# Altium footprint library MyLibrary.PcbLib: 365 footprints (part 11 of 23)
Each footprint in its own frame and in the unit in brackets; x right, y up, seen from the top. Pads: shape width x height; smd on the part's side, far side on the other; paste and mask are expansions set on the pad; w line width, h text height; cw(c..) or ccw(c..) is an arc to the next point about the centre after c.
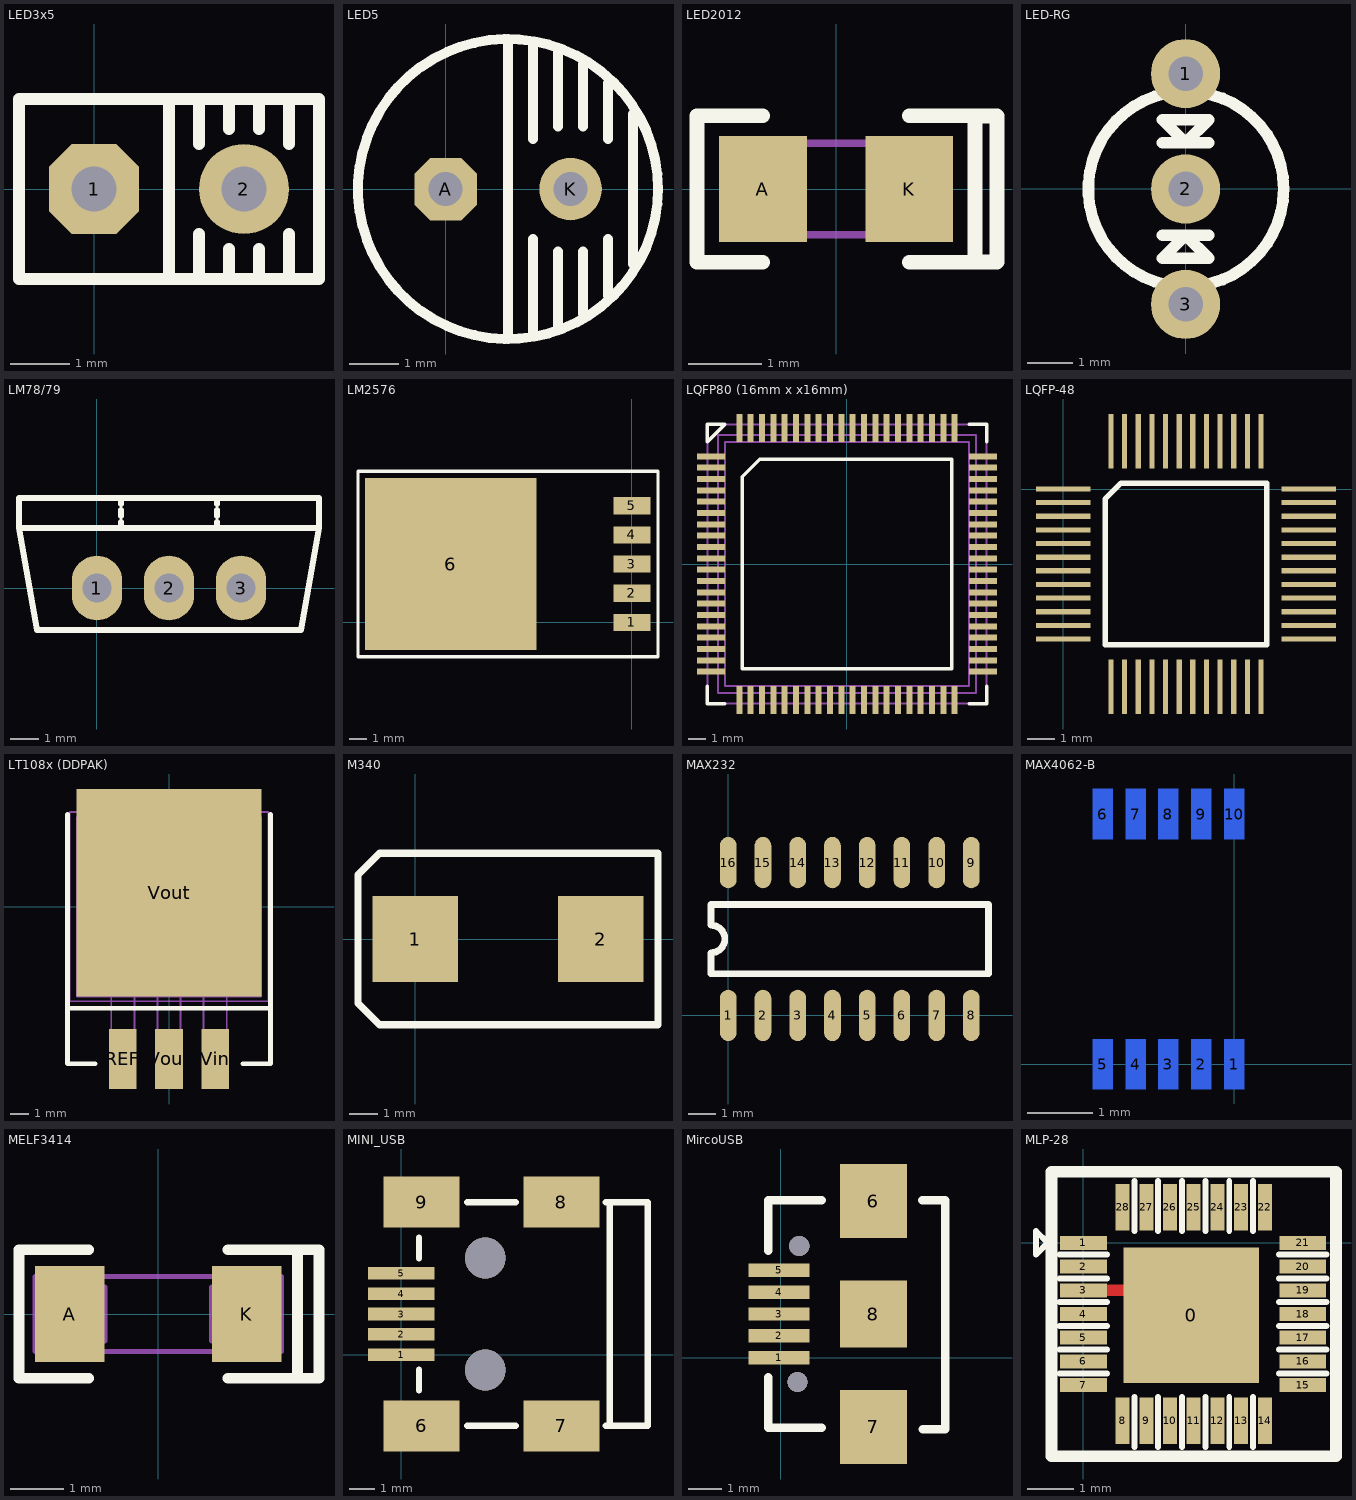
[diagram p10: the footprints below, top view; thin cyan lines are the x and y axes]

## LED3x5 [mil]
pads (2):
  oct 60x60 hole 30: 1(0,0)
  round 60 hole 30: 2(100,0)
Top Overlay:
  lines w8: 50,-60 50,60 ; 70,-60 70,-30 ; 70,30 70,60 ; 90,-60 90,-40 ; 90,40 90,60 ; 110,-60 110,-40 ; 110,40 110,60 ; 130,-60 130,-30 ; 130,30 130,60 ; -50,-60 150,-60 150,60 -50,60 -50,0 -50,-60

## LED5 [mm]
pads (2):
  oct 1.27x1.27 hole 0.7: A(0,0)
  round 1.27 hole 0.7: K(2.54,0)
Top Overlay:
  circle w0.203: c1.27,0 r3.048
  lines w0.203: 1.27,-3.048 1.27,3.048 ; 1.778,-2.921 1.778,-1.016 ; 1.778,1.016 1.778,2.921 ; 2.286,-2.794 2.286,-1.27 ; 2.286,1.27 2.286,2.794 ; 2.794,-2.54 2.794,-1.27 ; 2.794,1.27 2.794,2.54 ; 3.302,-2.159 3.302,-1.016 ; 3.302,1.016 3.302,2.159 ; 3.81,-1.524 3.81,1.524

## LED2012 [mm]
pads (2):
  rect 1.2x1.45 smd: A(-1,0) K(1,0)
Top Overlay:
  lines w0.2: -1,-1 -1.9,-1 -1.9,1 -1,1 ; 1,-1 1.9,-1 1.9,1 1,1
  lines w0.203: 1.9,-1 2.2,-1 2.2,1 1.9,1
Mechanical 1:
  lines w0.1: -0.6,-0.625 -0.6,0.625 ; 0.6,-0.625 0.6,0.625 ; -1,-0.625 1,-0.625 1,0.625 -1,0.625 -1,-0.625

## LED-RG [mil]
pads (3):
  round 60 hole 30: 1(0,100) 2(0,0) 3(0,-100)
Top Overlay:
  circle w10: c0.35,0 r84.65
  lines w10: -20,-40 20,-40 ; -20,40 20,40 ; -20,-60 20,-60 0,-40 -20,-60 ; -20,60 0,40 20,60 -20,60

## LM78/79 [mil]
pads (3):
  oval 70x90 hole 40: 1(0,0) 2(100,0) 3(200,0)
Top Overlay:
  lines w7.87: 33.33,83.33 33.33,91.67 ; 33.33,100 33.33,108.33 ; 33.33,116.67 33.33,125 ; 166.67,83.33 166.67,91.67 ; 166.67,100 166.67,108.33 ; 166.67,116.67 166.67,125 ; -108.33,83.33 -108.33,125 308.33,125 308.33,83.33 ; -108.33,83.33 -83.33,-58.33 283.33,-58.33 308.33,83.33 ; -108.33,83.33 308.33,83.33

## LM2576 [mm]
pads (6):
  rect 2.16x1 smd: 1(0.003,-0.02) 2(0.003,1.68) 3(0.003,3.38) 4(0.003,5.08) 5(0.003,6.78)
  rect 10x10 smd: 6(-10.547,3.38)
Top Overlay:
  lines w0.2: -5.601,-2.016 -15.951,-2.016 -15.951,8.784 -5.541,8.784
  lines w0.203: -5.601,-2.016 1.524,-2.016 1.524,8.784 -5.541,8.784

## LQFP80 (16mm x x16mm) [mm]
pads (80):
  rect 1.6x0.34 smd: 1(-7.8,6.175) 2(-7.8,5.525) 3(-7.8,4.875) 4(-7.8,4.225) 5(-7.8,3.575) 6(-7.8,2.925) 7(-7.8,2.275) 8(-7.8,1.625) 9(-7.8,0.975) 10(-7.8,0.325) 11(-7.8,-0.325) 12(-7.8,-0.975) 13(-7.8,-1.625) 14(-7.8,-2.275) 15(-7.8,-2.925) 16(-7.8,-3.575) 17(-7.8,-4.225) 18(-7.8,-4.875) 19(-7.8,-5.525) 20(-7.8,-6.175) 41(7.8,-6.175) 42(7.8,-5.525) 43(7.8,-4.875) 44(7.8,-4.225) 45(7.8,-3.575) 46(7.8,-2.925) 47(7.8,-2.275) 48(7.8,-1.625) 49(7.8,-0.975) 50(7.8,-0.325) 51(7.8,0.325) 52(7.8,0.975) 53(7.8,1.625) 54(7.8,2.275) 55(7.8,2.925) 56(7.8,3.575) 57(7.8,4.225) 58(7.8,4.875) 59(7.8,5.525) 60(7.8,6.175)
  rect 0.34x1.6 smd: 21(-6.175,-7.8) 22(-5.525,-7.8) 23(-4.875,-7.8) 24(-4.225,-7.8) 25(-3.575,-7.8) 26(-2.925,-7.8) 27(-2.275,-7.8) 28(-1.625,-7.8) 29(-0.975,-7.8) 30(-0.325,-7.8) 31(0.325,-7.8) 32(0.975,-7.8) 33(1.625,-7.8) 34(2.275,-7.8) 35(2.925,-7.8) 36(3.575,-7.8) 37(4.225,-7.8) 38(4.875,-7.8) 39(5.525,-7.8) 40(6.175,-7.8) 61(6.175,7.8) 62(5.525,7.8) 63(4.875,7.8) 64(4.225,7.8) 65(3.575,7.8) 66(2.925,7.8) 67(2.275,7.8) 68(1.625,7.8) 69(0.975,7.8) 70(0.325,7.8) 71(-0.325,7.8) 72(-0.975,7.8) 73(-1.625,7.8) 74(-2.275,7.8) 75(-2.925,7.8) 76(-3.575,7.8) 77(-4.225,7.8) 78(-4.875,7.8) 79(-5.525,7.8) 80(-6.175,7.8)
Top Overlay:
  lines w0.2: -8,-7 -8,-8 -7,-8 ; 7,-8 8,-8 8,-7 ; 7,8 8,8 8,7 ; -8,7 -7,8 -8,8 -8,7
  lines w0.203: -6,-6 6,-6 6,6 -5,6 -6,5 -6,-6
Mechanical 1:
  lines w0.1: -8,-8 -8,8 8,8 8,-8 -8,-8 ; -7.4,-7.4 -7.4,7.4 7.4,7.4 7.4,-7.4 -7.4,-7.4 ; -7,-7 -7,7 7,7 7,-7 -7,-7

## LQFP-48 [mm]
pads (48):
  rect 2x0.19 smd: 1(0,0) 2(0,-0.5) 3(0,-1) 4(0,-1.5) 5(0,-2) 6(0,-2.5) 7(0,-3) 8(0,-3.5) 9(0,-4) 10(0,-4.5) 11(0,-5) 12(0,-5.5) 25(9,-5.5) 26(9,-5) 27(9,-4.5) 28(9,-4) 29(9,-3.5) 30(9,-3) 31(9,-2.5) 32(9,-2) 33(9,-1.5) 34(9,-1) 35(9,-0.5) 36(9,0)
  rect 0.19x2 smd: 13(1.75,-7.25) 14(2.25,-7.25) 15(2.75,-7.25) 16(3.25,-7.25) 17(3.75,-7.25) 18(4.25,-7.25) 19(4.75,-7.25) 20(5.25,-7.25) 21(5.75,-7.25) 22(6.25,-7.25) 23(6.75,-7.25) 24(7.25,-7.25) 37(7.25,1.75) 38(6.75,1.75) 39(6.25,1.75) 40(5.75,1.75) 41(5.25,1.75) 42(4.75,1.75) 43(4.25,1.75) 44(3.75,1.75) 45(3.25,1.75) 46(2.75,1.75) 47(2.25,1.75) 48(1.75,1.75)
Top Overlay:
  lines w0.2: 1.535,-5.715 7.465,-5.715 7.465,0.215 2.12,0.215 1.535,-0.37 1.535,-5.715

## LT108x (DDPAK) [mil]
pads (4):
  rect 60x130 smd: REF(-100,-330) Vin(100,-330) Vout(0,-330)
  rect 400x450 smd: Vout(0,30)
Top Overlay:
  lines w10: -220,200 -220,-220 ; -160,-340 -220,-340 -220,-220 ; 160,-340 220,-340 220,-220 ; 220,200 220,-220 ; -220,-220 220,-220
Mechanical 2:
  lines w4: -200,135 200,135 ; -125,-195 -125,-335 -75,-335 -75,-195 ; -100,135 -100,-115 100,-115 100,135 ; -25,-195 -25,-335 25,-335 25,-195 ; 75,-195 75,-335 125,-335 125,-195 ; -200,-195 200,-195 200,195 -200,195 -200,-195
Mechanical 3:
  rectangle: -120,-370 -80,-285
  rectangle: 80,-370 120,-285
  rectangle: -20,-370 20,-285
  lines w4: -215,-205 215,-205 215,205 -215,205 -215,-205

## M340 [mil]
pads (2):
  rect 120x120 smd: 1(0,0) 2(260,0)
Top Overlay:
  lines w10: -80,-90 -80,90 -50,120 -30,120 340,120 340,-120 -30,-120 -50,-120 -80,-90

## MAX232 [mil]
pads (16):
  oval 24x74 smd: 1(0,0) 2(50,0) 3(100,0) 4(150,0) 5(200,0) 6(250,0) 7(300,0) 8(350,0) 9(350,220) 10(300,220) 11(250,220) 12(200,220) 13(150,220) 14(100,220) 15(50,220) 16(0,220)
Top Overlay:
  lines w10: -25,60 375,60 375,160 -25,160 -25,130 cw(c-25,110) -25,90 -25,60

## MAX4062-B [mil]
pads (10):
  rect 12x30 smd far side: 1(0,0) 2(-19.7,0) 3(-39.4,0) 4(-59.1,0) 5(-78.8,0) 6(-78.8,150) 7(-59.1,150) 8(-39.4,150) 9(-19.7,150) 10(0,150)
Bottom Overlay:
  lines w10: -98.8,30 21.2,30 21.2,55 cw(c21.2,75) 21.2,95 21.2,120 -98.8,120 -98.8,30

## MELF3414 [mm]
pads (2):
  rect 1.3x1.8 smd: A(-1.65,0) K(1.65,0)
Top Overlay:
  lines w0.2: -1.3,-1.2 -2.6,-1.2 -2.6,1.2 -1.3,1.2 ; 1.3,-1.2 2.6,-1.2 ; 1.3,1.2 2.6,1.2 ; 2.6,-1.2 2.6,1.2 ; 2.6,-1.2 3,-1.2 3,1.2 2.6,1.2
Mechanical 1:
  lines w0.1: -2.3,-0.7 -2.3,0.7 ; -1.3,-0.7 -1.3,0.7 ; -1,-0.5 -1,0.5 ; 1,-0.5 1,0.5 ; 1.3,-0.7 1.3,0.7 ; 2.3,-0.7 2.3,0.7 ; -1.7,-0.7 1.7,-0.7 1.7,0.7 -1.7,0.7 -1.7,-0.7

## MINI_USB [mm]
pads (9):
  rect 2.6x0.5 smd: 1(0,0) 2(0,0.8) 3(0,1.6) 4(0,2.4) 5(0,3.2)
  rect 3x2 smd: 6(0.8,-2.8) 7(6.3,-2.8) 8(6.3,6) 9(0.8,6)
via 3.3,3.8 diameter 1.6 hole 1.6
via 3.3,-0.6 diameter 1.6 hole 1.6
Top Overlay:
  lines w0.254: 0.7,-1.4 0.7,-0.6 ; 0.7,3.8 0.7,4.6 ; 2.6,-2.8 4.5,-2.8 ; 2.6,6 4.5,6 ; 8.05,-2.8 9.7,-2.8 9.7,6 8.05,6 ; 8.2,-2.8 8.2,6

## MircoUSB [mm]
pads (8):
  rect 1.8x0.4 smd: 1(-0.05,0) 2(-0.05,0.65) 3(-0.05,1.3) 4(-0.05,1.95) 5(-0.05,2.6)
  rect 2x2.2 smd: 6(2.75,4.65) 7(2.75,-2.05)
  rect 2x2 smd: 8(2.75,1.3)
via 0.5,-0.72 diameter 0.6 hole 0.6
via 0.55,3.32 diameter 0.6 hole 0.6
Top Overlay:
  lines w0.254: -0.37,-2.07 -0.37,-0.58 ; -0.37,3.18 -0.37,4.67 1.22,4.67 ; -0.36,-2.07 1.22,-2.07 ; 4.2,4.67 4.88,4.67 4.88,-2.12 4.21,-2.12

## MLP-28 [mm]
pads (29):
  rect 2.9x2.9 smd: 0(2.311,-1.549)
  rect 1x0.3 smd: 1(0,0) 2(0,-0.508) 3(0,-1.016) 4(0,-1.524) 5(0,-2.032) 6(0,-2.54) 7(0,-3.048) 15(4.699,-3.048) 16(4.699,-2.54) 17(4.699,-2.032) 18(4.699,-1.524) 19(4.699,-1.016) 20(4.699,-0.508) 21(4.699,0)
  rect 0.3x1 smd: 8(0.838,-3.81) 9(1.346,-3.81) 10(1.854,-3.81) 11(2.362,-3.81) 12(2.87,-3.81) 13(3.378,-3.81) 14(3.886,-3.81) 22(3.886,0.762) 23(3.378,0.762) 24(2.87,0.762) 25(2.362,0.762) 26(1.854,0.762) 27(1.346,0.762) 28(0.838,0.762)
Top Layer:
  rectangle: 0.254,-1.143 1.016,-0.889
Top Overlay:
  lines w0.127: -0.508,-2.794 0.508,-2.794 ; -0.508,-2.286 0.508,-2.286 ; -0.508,-1.778 0.508,-1.778 ; -0.508,-1.27 0.508,-1.27 ; -0.508,-0.762 0.508,-0.762 ; -0.508,-0.254 0.508,-0.254 ; 1.092,-4.369 1.092,-3.302 ; 1.092,0.254 1.092,1.321 ; 1.6,-4.369 1.6,-3.302 ; 1.6,0.254 1.6,1.321 ; 2.108,-4.369 2.108,-3.302 ; 2.108,0.254 2.108,1.321 ; 2.616,-4.369 2.616,-3.302 ; 2.616,0.254 2.616,1.321 ; 3.124,-4.369 3.124,-3.302 ; 3.124,0.254 3.124,1.321 ; 3.632,-4.369 3.632,-3.302 ; 3.632,0.254 3.632,1.321 ; 4.191,-2.794 5.207,-2.794 ; 4.191,-2.286 5.207,-2.286 ; 4.191,-1.778 5.207,-1.778 ; 4.191,-1.27 5.207,-1.27 ; 4.191,-0.762 5.207,-0.762 ; 4.191,-0.254 5.207,-0.254 ; -1.016,-0.254 -1.016,0.254 -0.762,0 -1.016,-0.254
  lines w0.254: -0.686,-4.572 5.41,-4.572 5.41,1.524 -0.686,1.524 -0.686,-4.572